# EAGLE library part PIC10F200 (library FaBo-MPU)
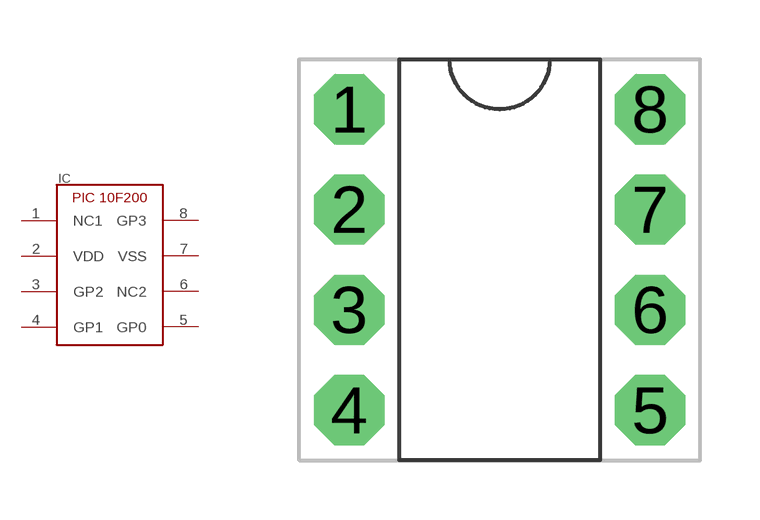
[diagram p3: symbol with the pads of PDIP-8; footprint PDIP-8]

Designator prefix IC

## PIC10F200-PDIP  [PDIP-8]
1  NC1
2  VDD
3  GP2
4  GP1
5  GP0
6  NC2
7  VSS
8  GP3

## Footprint PDIP-8 (pad centres in mm)
drill 1 pad 1.778 octagon: 1 -3.81,3.81; 2 -3.81,1.27; 3 -3.81,-1.27; 4 -3.81,-3.81; 5 3.81,-3.81; 6 3.81,-1.27; 7 3.81,1.27; 8 3.81,3.81